# Altium schematic symbol library W5500.SchLib: 1 symbol
Pins are listed as number, name and electrical type; pins without a type are passive.

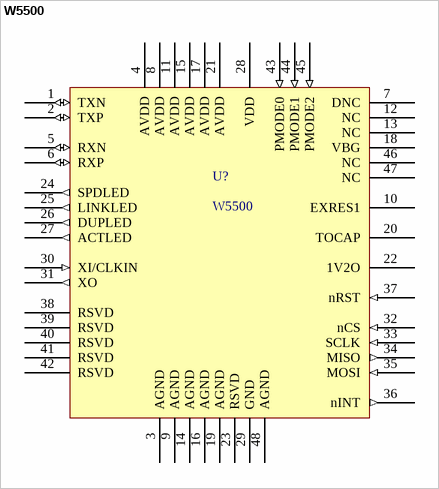
[diagram p0: symbol W5500]

## W5500
designator U?
W5500 LQFP-48
footprint LQFP-48 (TSQFP, 48-Leads, Body 9,0x9,0mm (max), Pitch 0,50mm, IPC Medium Density)
pins: 1 TXN (io), 2 TXP (io), 3 AGND (power), 4 AVDD (power), 5 RXN (io), 6 RXP (io), 7 DNC, 8 AVDD (power), 9 AGND (power), 10 EXRES1, 11 AVDD (power), 12 NC, 13 NC, 14 AGND (power), 15 AVDD (power), 16 AGND (power), 17 AVDD (power), 18 VBG, 19 AGND (power), 20 TOCAP, 21 AVDD (power), 22 1V2O (power), 23 RSVD (power), 24 SPDLED (out), 25 LINKLED (out), 26 DUPLED (out), 27 ACTLED (out), 28 VDD (power), 29 GND (power), 30 XI/CLKIN (in), 31 XO (out), 32 nCS (in), 33 SCLK (in), 34 MISO (out), 35 MOSI (in), 36 nINT (out), 37 nRST (in), 38 RSVD (power), 39 RSVD (power), 40 RSVD (power), 41 RSVD (power), 42 RSVD (power), 43 PMODE0 (in), 44 PMODE1 (in), 45 PMODE2 (in), 46 NC (power), 47 NC (power), 48 AGND (power)